# EAGLE library part DF10G7M1N (library Revolve)
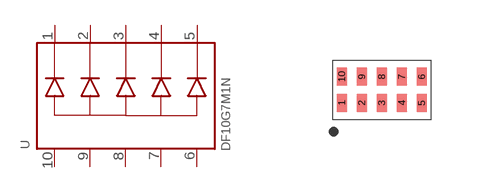
[diagram p10: symbol with the pads of DF10G7M1N; footprint DF10G7M1N]

Designator prefix -

## DF10G7M1N  [DF10G7M1N]
1  IO1
2  IO2
3  GND  pwr
4  IO3
5  IO4
6  NC5  nc
7  NC4  nc
8  NC3  nc
9  NC2  nc
10  NC1  nc

## Footprint DF10G7M1N (pad centres in mm)
smd 0.25 x 0.45: 1 -1.03,-0.328; 2 -0.53,-0.328; 3 -0.03,-0.328; 4 0.47,-0.328; 5 0.97,-0.328; 6 0.97,0.328; 7 0.47,0.328; 8 -0.03,0.328; 9 -0.53,0.328; 10 -1.03,0.328